# EAGLE library part CH376T (library FaBo-USB)
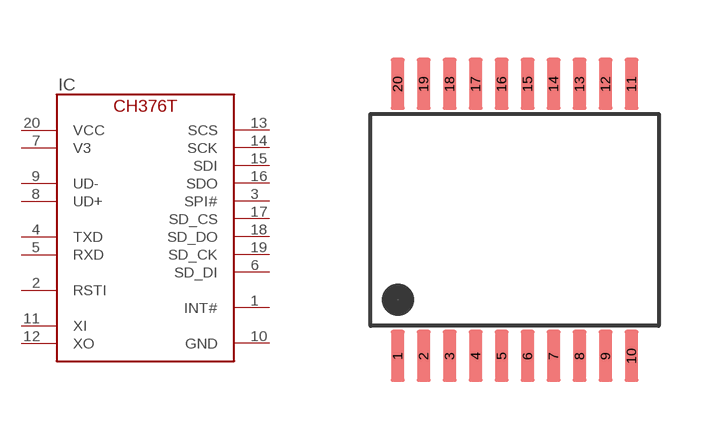
[diagram p6: symbol with the pads of SSOP-20; footprint SSOP-20]

Designator prefix IC

## CH376T  [SSOP-20]
1  INT#
2  RSTI
3  SPI#
4  TXD
5  RXD
6  SD_DI
7  V3
8  UD+
9  UD-
10  GND
11  XI
12  XO
13  SCS
14  SCK
15  SDI
16  SDO
17  SD_CS
18  SD_DO
19  SD_CK
20  VCC

## Footprint SSOP-20 (pad centres in mm)
smd 0.35 x 1.3: 1 -2.925,-3.4; 2 -2.275,-3.4; 3 -1.625,-3.4; 4 -0.975,-3.4; 5 -0.325,-3.4; 6 0.325,-3.4; 7 0.975,-3.4; 8 1.625,-3.4; 9 2.275,-3.4; 10 2.925,-3.4; 11 2.925,3.4; 12 2.275,3.4; 13 1.625,3.4; 14 0.975,3.4; 15 0.325,3.4; 16 -0.325,3.4; 17 -0.975,3.4; 18 -1.625,3.4; 19 -2.275,3.4; 20 -2.925,3.4